# EAGLE library part PCF8563 (library Tilmann)
PCF8563 SMD RTC Module I2C, YY-MM-DD-dd HH:MM:SS (24hr) Footprint: SOIC8 Partnr: C7440 Datasheet: Link <https://datasheet.lcsc.com/lcsc/1809141212_NXP-Semicon-PCF8563T-5,518_C7440.pdf>
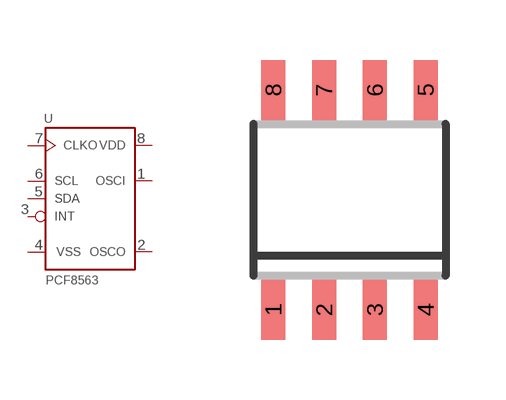
[diagram p14: symbol with the pads of SOIC8; footprint SOIC8]

Designator prefix -

## PCF8563T (PTNR: C7440)  [SOIC8]
1  OSCI
2  OSCO
3  /INT
4  VSS
5  SDA
6  SCL
7  CLKO
8  VDD

## Footprint SOIC8 (pad centres in mm)
SOIC-8 CASE 751-07 Source: http://www.onsemi.com/pub/Collateral/MC34164-D.PDF D (R-PDSO-G8)PLATIC SMALL-OUTLINE PACKAGE Source: http://focus.ti.com/lit/ds/symlink/tlc27l2.pdf
smd 0.6 x 1.5: 1 -1.905,-2.75; 2 -0.635,-2.75; 3 0.635,-2.75; 4 1.905,-2.75; 5 1.905,2.75; 6 0.635,2.75; 7 -0.635,2.75; 8 -1.905,2.75